# EAGLE library part CD74HC4051MT (library imported-parts)
http://uk.farnell.com/texas-instruments/cd74hc4051mt/logic-analog-mux-demux-hs-16so/dp/1753703
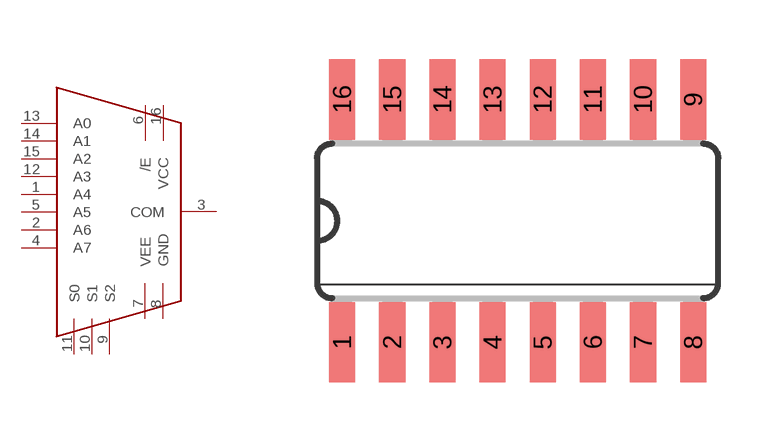
[diagram p11: symbol with the pads of SO16; footprint SO16]

Designator prefix -

## CD74HC4051MT  [SO16]
1  A4
2  A6
3  COM
4  A7
5  A5
6  /E
7  VEE  pwr
8  GND  pwr
9  S2  in
10  S1  in
11  S0  in
12  A3
13  A0
14  A1
15  A2
16  VCC  pwr

## Footprint SO16 (pad centres in mm)
Small Outline package 150 mil
smd 0.66 x 2.032: 1 -4.445,-3.073; 2 -3.175,-3.073; 3 -1.905,-3.073; 4 -0.635,-3.073; 5 0.635,-3.073; 6 1.905,-3.073; 7 3.175,-3.073; 8 4.445,-3.073; 9 4.445,3.073; 10 3.175,3.073; 11 1.905,3.073; 12 0.635,3.073; 13 -0.635,3.073; 14 -1.905,3.073; 15 -3.175,3.073; 16 -4.445,3.073